# Altium schematic symbol library Memory SDRAM.SchLib: 3 symbols
Pins are listed as number, name and electrical type; pins without a type are passive.

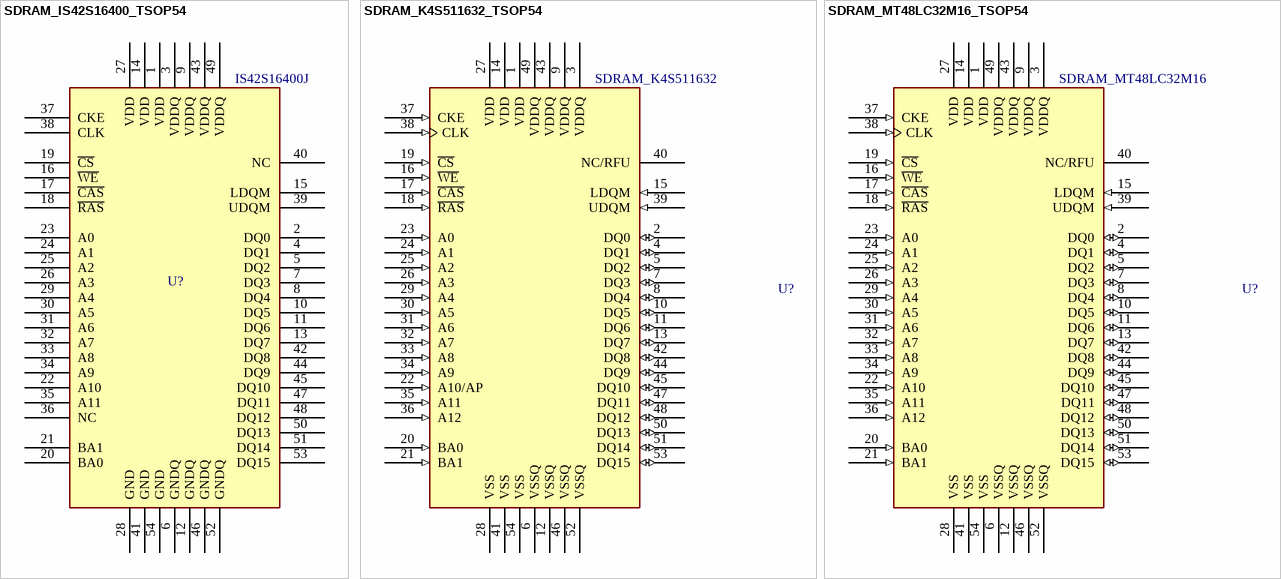
[diagram p0: symbols SDRAM_IS42S16400_TSOP54 to SDRAM_MT48LC32M16_TSOP54]

## SDRAM_IS42S16400_TSOP54
designator U?, comment IS42S16400J
SDRAM, 64Mb(1MbX16bX4), TSOP54; MANF: ISSI; MANF_P#: IS42S16400J-7TLI; PARAM2: 200MHz (max), 3.3V; PARAM: 64Mb(1MbX16bX4); VALUE: IS42S16400J
footprint SOG80_54
pins: 1 VDD, 2 DQ0, 3 VDDQ, 4 DQ1, 5 DQ2, 6 GNDQ, 7 DQ3, 8 DQ4, 9 VDDQ, 10 DQ5, 11 DQ6, 12 GNDQ, 13 DQ7, 14 VDD, 15 LDQM, 16 ~{WE}, 17 ~{CAS}, 18 ~{RAS}, 19 ~{CS}, 20 BA0, 21 BA1, 22 A10, 23 A0, 24 A1, 25 A2, 26 A3, 27 VDD, 28 GND, 29 A4, 30 A5, 31 A6, 32 A7, 33 A8, 34 A9, 35 A11, 36 NC, 37 CKE, 38 CLK, 39 UDQM, 40 NC, 41 GND, 42 DQ8, 43 VDDQ, 44 DQ9, 45 DQ10, 46 GNDQ, 47 DQ11, 48 DQ12, 49 VDDQ, 50 DQ13, 51 DQ14, 52 GNDQ, 53 DQ15, 54 GND

## SDRAM_K4S511632_TSOP54
designator U?, comment SDRAM_K4S511632
SDRAM, 512Mb, 8Mb x 16Bit x 4 Banks, 54-Pin TSOP; PARAM2: 133MHz (max), 3.3V; MANF_P#: K4S511632B-UL75; MANF: SAMSUNG; PARAM: 512Mb, 8Mb x 16Bit x 4 Banks; VALUE: SDRAM_K4S511632
footprint SOG80_54
footprint 54_TSOP2_400AF_L (SOP, 54-Leads, Body 22.5x10.16mm, Pitch 0.8mm, IPC High Density)
footprint 54_TSOP2_400AF_M (SOP, 54-Leads, Body 22.5x10.16mm, Pitch 0.8mm, IPC Low Density)
pins: 1 VDD (power) "Power for the input buffers and the core logic.", 2 DQ0 (io) "Data inputs/outputs are multiplexed on the same pins.", 3 VDDQ (power) "Data Output Power; Isolated power supply for the output buffers to improve noise immunity.", 4 DQ1 (io) "Data inputs/outputs are multiplexed on the same pins.", 5 DQ2 (io) "Data inputs/outputs are multiplexed on the same pins.", 6 VSSQ (power) "Data Output Ground; Isolated ground for the output buffers to improve noise immunity.", 7 DQ3 (io) "Data inputs/outputs are multiplexed on the same pins.", 8 DQ4 (io) "Data inputs/outputs are multiplexed on the same pins.", 9 VDDQ (power) "Data Output Power; Isolated power supply for the output buffers to improve noise immunity.", 10 DQ5 (io) "Data inputs/outputs are multiplexed on the same pins.", 11 DQ6 (io) "Data inputs/outputs are multiplexed on the same pins.", 12 VSSQ (power) "Data Output Ground; Isolated ground for the output buffers to improve noise immunity.", 13 DQ7 (io) "Data inputs/outputs are multiplexed on the same pins.", 14 VDD (power) "Power for the input buffers and the core logic.", 15 LDQM (in) "Data input/output mask for DQ0-DQ7", 16 ~{WE} (in) "Write enable; Enables write operation and row precharge.", 17 ~{CAS} (in) "Column address strobe; Latches column addresses on the positive going edge of the CLK with CAS low.", 18 ~{RAS} (in) "Row address strobe; Latches row addresses on the positive going edge of the CLK with RAS low.", 19 ~{CS} (in) "Chip select; Disables or enables device operation.", 20 BA0 (in) "Bank select address", 21 BA1 (in) "Bank select address", 22 A10/AP (in) "Row/column addresses are multiplexed on the same pins.", 23 A0 (in) "Row/column addresses are multiplexed on the same pins.", 24 A1 (in) "Row/column addresses are multiplexed on the same pins.", 25 A2 (in) "Row/column addresses are multiplexed on the same pins.", 26 A3 (in) "Row/column addresses are multiplexed on the same pins.", 27 VDD (power) "Power for the input buffers and the core logic.", 28 VSS (power) "Ground for the input buffers and the core logic.", 29 A4 (in) "Row/column addresses are multiplexed on the same pins.", 30 A5 (in) "Row/column addresses are multiplexed on the same pins.", 31 A6 (in) "Row/column addresses are multiplexed on the same pins.", 32 A7 (in) "Row/column addresses are multiplexed on the same pins.", 33 A8 (in) "Row/column addresses are multiplexed on the same pins.", 34 A9 (in) "Row/column addresses are multiplexed on the same pins.", 35 A11 (in) "Row/column addresses are multiplexed on the same pins.", 36 A12 (in) "Row/column addresses are multiplexed on the same pins.", 37 CKE (in) "Clock enable; Masks system clock to freeze operation from the next clock cycle.", 38 CLK (in) "System clock; Active on the positive going edge.", 39 UDQM (in) "Data input/output mask for DQ8-DQ15", 40 NC/RFU "No connection/reserved for future use.", 41 VSS (power) "Ground for the input buffers and the core logic.", 42 DQ8 (io) "Data inputs/outputs are multiplexed on the same pins.", 43 VDDQ (power) "Data Output Power; Isolated power supply for the output buffers to improve noise immunity.", 44 DQ9 (io) "Data inputs/outputs are multiplexed on the same pins.", 45 DQ10 (io) "Data inputs/outputs are multiplexed on the same pins.", 46 VSSQ (power) "Data Output Ground; Isolated ground for the output buffers to improve noise immunity.", 47 DQ11 (io) "Data inputs/outputs are multiplexed on the same pins.", 48 DQ12 (io) "Data inputs/outputs are multiplexed on the same pins.", 49 VDDQ (power) "Data Output Power; Isolated power supply for the output buffers to improve noise immunity.", 50 DQ13 (io) "Data inputs/outputs are multiplexed on the same pins.", 51 DQ14 (io) "Data inputs/outputs are multiplexed on the same pins.", 52 VSSQ (power) "Data Output Ground; Isolated ground for the output buffers to improve noise immunity.", 53 DQ15 (io) "Data inputs/outputs are multiplexed on the same pins.", 54 VSS (power) "Ground for the input buffers and the core logic."

## SDRAM_MT48LC32M16_TSOP54
designator U?, comment SDRAM_MT48LC32M16
SDRAM, 512Mb, 32Mb x 16, 7.5ns, 3.3V,TSOP54, PC133; PARAM2: 133MHz (max), 3.3V; MANF_P#: MT48LC32M16A2P-75 L; MANF: MICRON; PARAM: 512Mb, 32Mb x 16; VALUE: SDRAM_MT48LC32M16
footprint SOG80_54
footprint 54_TSOP2_400AF_L (SOP, 54-Leads, Body 22.5x10.16mm, Pitch 0.8mm, IPC High Density)
footprint 54_TSOP2_400AF_M (SOP, 54-Leads, Body 22.5x10.16mm, Pitch 0.8mm, IPC Low Density)
pins: 1 VDD (power) "Power for the input buffers and the core logic.", 2 DQ0 (io) "Data inputs/outputs are multiplexed on the same pins.", 3 VDDQ (power) "Data Output Power; Isolated power supply for the output buffers to improve noise immunity.", 4 DQ1 (io) "Data inputs/outputs are multiplexed on the same pins.", 5 DQ2 (io) "Data inputs/outputs are multiplexed on the same pins.", 6 VSSQ (power) "Data Output Ground; Isolated ground for the output buffers to improve noise immunity.", 7 DQ3 (io) "Data inputs/outputs are multiplexed on the same pins.", 8 DQ4 (io) "Data inputs/outputs are multiplexed on the same pins.", 9 VDDQ (power) "Data Output Power; Isolated power supply for the output buffers to improve noise immunity.", 10 DQ5 (io) "Data inputs/outputs are multiplexed on the same pins.", 11 DQ6 (io) "Data inputs/outputs are multiplexed on the same pins.", 12 VSSQ (power) "Data Output Ground; Isolated ground for the output buffers to improve noise immunity.", 13 DQ7 (io) "Data inputs/outputs are multiplexed on the same pins.", 14 VDD (power) "Power for the input buffers and the core logic.", 15 LDQM (in) "Data input/output mask for DQ0-DQ7", 16 ~{WE} (in) "Write enable; Enables write operation and row precharge.", 17 ~{CAS} (in) "Column address strobe; Latches column addresses on the positive going edge of the CLK with CAS low.", 18 ~{RAS} (in) "Row address strobe; Latches row addresses on the positive going edge of the CLK with RAS low.", 19 ~{CS} (in) "Chip select; Disables or enables device operation.", 20 BA0 (in) "Bank select address", 21 BA1 (in) "Bank select address", 22 A10 (in) "Row/column addresses are multiplexed on the same pins.", 23 A0 (in) "Row/column addresses are multiplexed on the same pins.", 24 A1 (in) "Row/column addresses are multiplexed on the same pins.", 25 A2 (in) "Row/column addresses are multiplexed on the same pins.", 26 A3 (in) "Row/column addresses are multiplexed on the same pins.", 27 VDD (power) "Power for the input buffers and the core logic.", 28 VSS (power) "Ground for the input buffers and the core logic.", 29 A4 (in) "Row/column addresses are multiplexed on the same pins.", 30 A5 (in) "Row/column addresses are multiplexed on the same pins.", 31 A6 (in) "Row/column addresses are multiplexed on the same pins.", 32 A7 (in) "Row/column addresses are multiplexed on the same pins.", 33 A8 (in) "Row/column addresses are multiplexed on the same pins.", 34 A9 (in) "Row/column addresses are multiplexed on the same pins.", 35 A11 (in) "Row/column addresses are multiplexed on the same pins.", 36 A12 (in) "Row/column addresses are multiplexed on the same pins.", 37 CKE (in) "Clock enable; Masks system clock to freeze operation from the next clock cycle.", 38 CLK (in) "System clock; Active on the positive going edge.", 39 UDQM (in) "Data input/output mask for DQ8-DQ15", 40 NC/RFU "No connection/reserved for future use.", 41 VSS (power) "Ground for the input buffers and the core logic.", 42 DQ8 (io) "Data inputs/outputs are multiplexed on the same pins.", 43 VDDQ (power) "Data Output Power; Isolated power supply for the output buffers to improve noise immunity.", 44 DQ9 (io) "Data inputs/outputs are multiplexed on the same pins.", 45 DQ10 (io) "Data inputs/outputs are multiplexed on the same pins.", 46 VSSQ (power) "Data Output Ground; Isolated ground for the output buffers to improve noise immunity.", 47 DQ11 (io) "Data inputs/outputs are multiplexed on the same pins.", 48 DQ12 (io) "Data inputs/outputs are multiplexed on the same pins.", 49 VDDQ (power) "Data Output Power; Isolated power supply for the output buffers to improve noise immunity.", 50 DQ13 (io) "Data inputs/outputs are multiplexed on the same pins.", 51 DQ14 (io) "Data inputs/outputs are multiplexed on the same pins.", 52 VSSQ (power) "Data Output Ground; Isolated ground for the output buffers to improve noise immunity.", 53 DQ15 (io) "Data inputs/outputs are multiplexed on the same pins.", 54 VSS (power) "Ground for the input buffers and the core logic."